# Altium schematic symbol library Suppressor_Unidirect.SchLib: 1 symbol
Pins are listed as number, name and electrical type; pins without a type are passive.

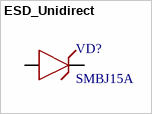
[diagram p0: symbol ESD_Unidirect]

## ESD_Unidirect
designator VD?, comment SMBJ15A
footprint DO-214AA
footprint SOD-323
footprint SMF3.3A
pins: 1 A, 2 C